# Altium schematic symbol library 1190301.SchLib: 1 symbol
Pins are listed as number, name and electrical type; pins without a type are passive.

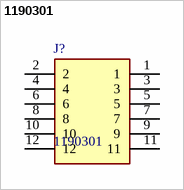
[diagram p0: symbol 1190301]

## 1190301
designator J?
Fixed Terminal Blocks LPT 2,5/ 6-5,0; Manufacturer_Name: Phoenix Contact; Geometry.Height: 16.64mm; Mouser Part Number: 651-1190301; Mouser Price/Stock: https://www.mouser.co.uk/ProductDetail/Phoenix-Contact/1190301?qs=QNEnbhJQKvbrt33TQcyRIw%3D%3D; Manufacturer_Part_Number: 1190301; Datasheet Link: https://www.phoenixcontact.com/us/products/1190301
footprint 1190301
pins: 1, 2, 3, 4, 5, 6, 7, 8, 9, 10, 11, 12